# Altium footprint library Fuse.PcbLib: 26 footprints (part 2 of 2)
Each footprint in its own frame and in the unit in brackets; x right, y up, seen from the top. Pads: shape width x height; smd on the part's side, far side on the other; paste and mask are expansions set on the pad; w line width, h text height; cw(c..) or ccw(c..) is an arc to the next point about the centre after c.
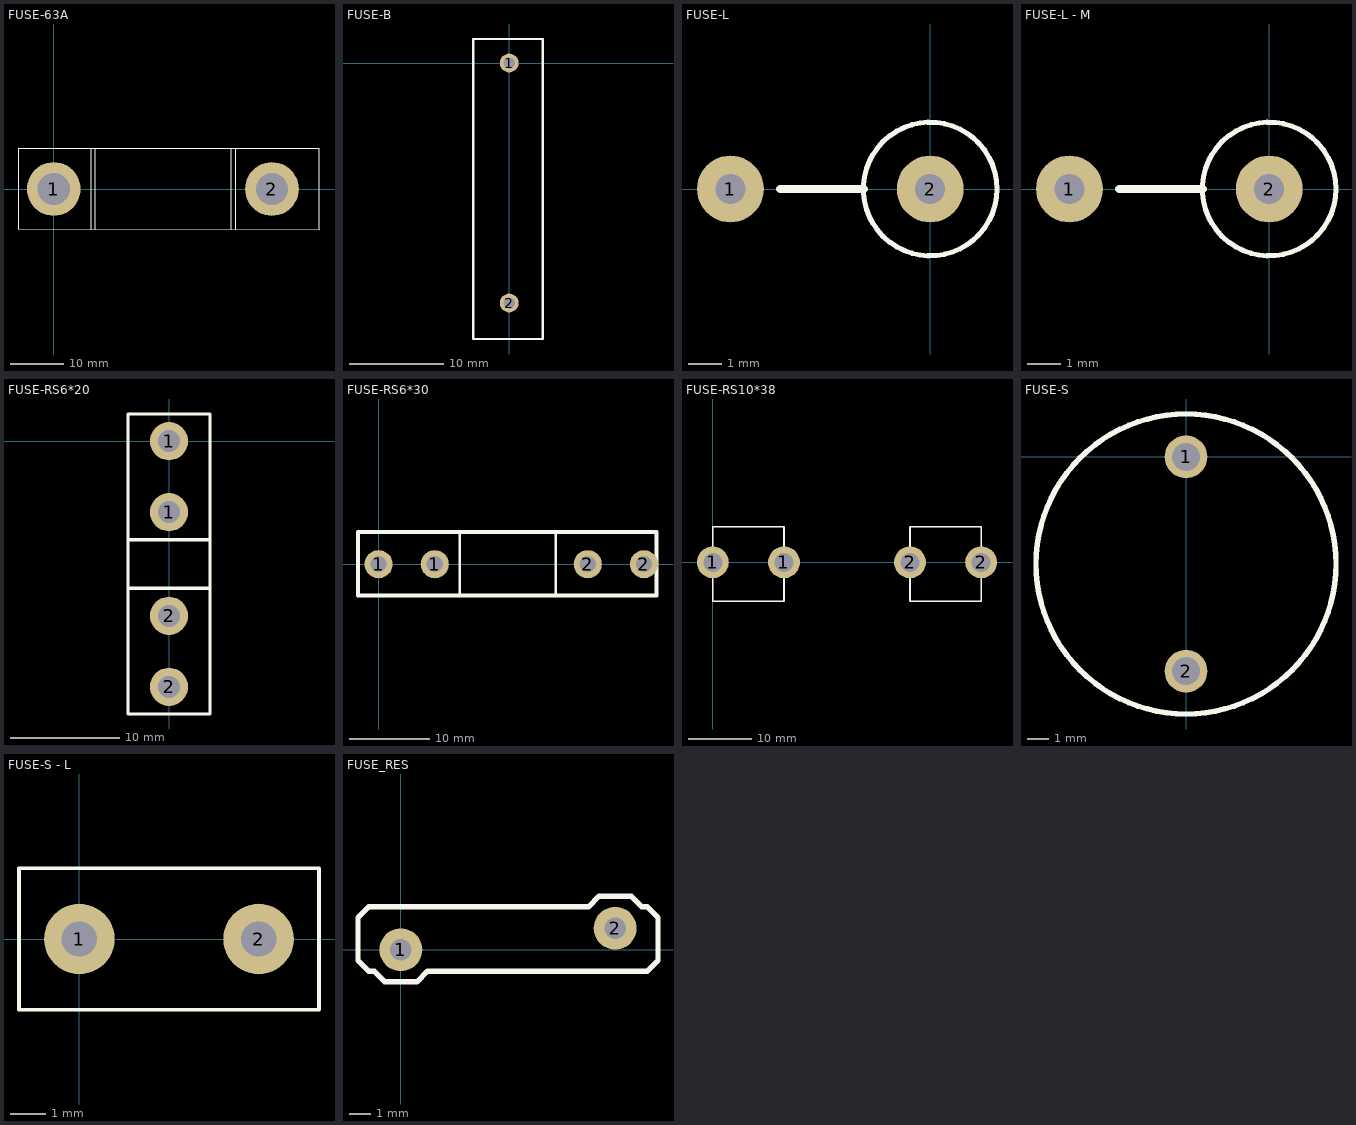
[diagram p1: the footprints below, top view; thin cyan lines are the x and y axes]

## FUSE-63A [mm]
pads (2):
  round 10 hole 6: 1(0,0) 2(40.64,0)
Top Overlay:
  lines w0.15: 6.985,-7.62 6.985,7.62 ; 7.747,-7.493 7.747,7.62 ; 33.02,-7.62 33.02,7.62 ; 33.909,-7.62 33.909,7.62 ; -6.477,-7.493 49.403,-7.62 49.403,7.62 -6.477,7.62 -6.477,-7.493

## FUSE-B [mm]
pads (2):
  round 2 hole 1.2: 1(0,0) 2(0,-25.4)
Top Overlay:
  lines w0.254: -3.81,-29.21 -3.81,2.54 3.556,2.54 3.556,-29.21 -3.81,-29.21

## FUSE-L [mil]
height 511.81
pads (2):
  round 79 hole 35.43: 1(-236.22,0) 2(0,0)
Top Overlay:
  circle w6: c0,0 r79
  lines w10: -177.17,0 -78.74,0
3D body: height 545.04, standoff -77.66, extent -249.02,-74.21 77.68,83.27

## FUSE-L - M [mil]
height 511.81
pads (2):
  round 79 hole 35.43: 1(-236.22,0) 2(0,0)
Top Overlay:
  circle w6: c0,0 r79
  lines w10: -177.17,0 -78.74,0
3D body: height 545.04, standoff -77.66, extent -249.02,-74.21 77.68,83.27

## FUSE-RS6*20 [mil]
pads (4):
  round 138 hole 79: 1(0,-256) 1(0,0) 2(0,-886) 2(0,-630)
Top Overlay:
  lines w12: -148,-530 148,-530 ; -148,-355 148,-355 ; -148,-984 148,-984 148,98 -148,98 -148,-984

## FUSE-RS6*30 [mil]
pads (4):
  round 138 hole 79: 1(0,0) 1(276,0) 2(1027.37,0) 2(1303.37,0)
Top Overlay:
  lines w12: 398,-157 398,158 ; 870,-157 870,158
  lines w20: -101,-153 1365,-153 1365,159 -101,159 -101,-153

## FUSE-RS10*38 [mm]
pads (4):
  round 5 hole 3: 1(0,0) 1(11.176,0) 2(30.988,0) 2(42.164,0)
Top Overlay:
  lines w0.254: 0,-5.842 0,-5.334 ; 11.176,-5.842 11.176,-5.334 ; 0,-6.096 0,5.588 11.176,5.588 11.176,-6.096 0,-6.096 ; 30.988,-6.096 42.164,-6.096 42.164,5.588 30.988,5.588 30.988,0 30.988,-6.096

## FUSE-S [mm]
pads (2):
  round 2 hole 1.3: 1(0,0) 2(0,-10)
Top Overlay:
  circle w0.254: c0,-5 r7

## FUSE-S - L [mm]
pads (2):
  round 2 hole 1: 1(0,0) 2(5.08,0)
Top Overlay:
  lines w0.1: -1.71,-2 -1.71,2 6.79,2 6.79,-2 -1.71,-2
3D body: height 8, standoff -3.1, extent -1.71,-2 6.79,2

## FUSE_RES [mm]
pads (2):
  round 2 hole 1: 1(0,0) 2(10,1)
Top Overlay:
  lines w0.254: -2,-0.5 -1.5,-1 -1.25,-1 -0.75,-1.5 0.75,-1.5 1.25,-1 11.5,-1 12,-0.5 12,1.5 11.5,2 11.25,2 10.75,2.5 9.25,2.5 8.75,2 -1.5,2 -2,1.5 -2,-0.5